# Altium integrated library Altium Database Library V2.IntLib: 722 symbols (part 24 of 35)

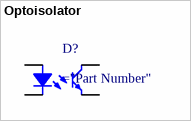
[diagram p457: symbol Optoisolator]

## Optoisolator
designator D?
pins: 1, 2, 3, 4


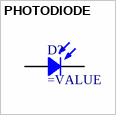
[diagram p458: symbol PHOTODIODE]

## PHOTODIODE
designator D?
Photodiode
pins: 1, 2


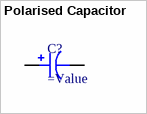
[diagram p459: symbol Polarised Capacitor]

## Polarised Capacitor
designator C?
SMT Polarised Capacitor
pins: 1, 2


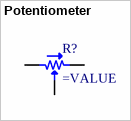
[diagram p460: symbol Potentiometer]

## Potentiometer
designator R?
Potentiometer
pins: 1, 2, 3


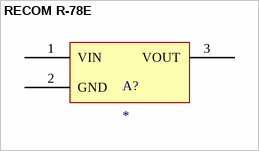
[diagram p461: symbol RECOM R-78E]

## RECOM R-78E
designator A?
pins: 1 VIN, 2 GND, 3 VOUT


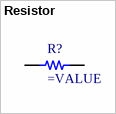
[diagram p462: symbol Resistor]

## Resistor
designator R?
SMT Resistor
pins: 1, 2


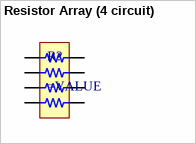
[diagram p463: symbol Resistor Array (4 circuit)]

## Resistor Array (4 circuit)
designator R?
SMT Resistor Array
pins: 1, 2, 3, 4, 5, 6, 7, 8


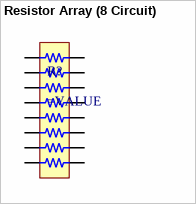
[diagram p464: symbol Resistor Array (8 Circuit)]

## Resistor Array (8 Circuit)
designator R?
SMT Resistor Array
pins: 1, 2, 3, 4, 5 6, 6, 7, 8, 9, 10, 11, 12, 13, 14, 15, 16


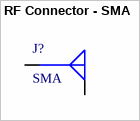
[diagram p465: symbol RF Connector - SMA]

## RF Connector - SMA
designator J?, comment SMA
pins: G, S


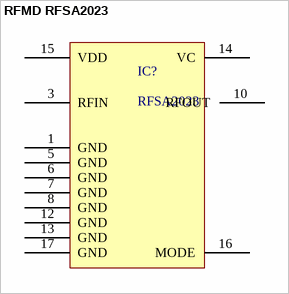
[diagram p466: symbol RFMD RFSA2023]

## RFMD RFSA2023
designator IC?, comment RFSA2023
VOLTAGE CONTROLLED ATTENUATOR
pins: 1 GND, 3 RFIN, 5 GND, 6 GND, 7 GND, 8 GND, 10 RFOUT, 12 GND, 13 GND, 14 VC, 15 VDD, 16 MODE, 17 GND


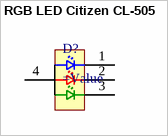
[diagram p467: symbol RGB LED Citizen CL-505]

## RGB LED Citizen CL-505
designator D?
*
pins: 1 C1, 2 C2, 3 C3, 4 A3


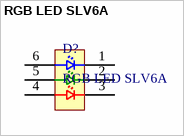
[diagram p468: symbol RGB LED SLV6A]

## RGB LED SLV6A
designator D?
Cree SLV6A
pins: 1 C1, 2 C2, 3 C3, 4 A3, 5 A2, 6 A1


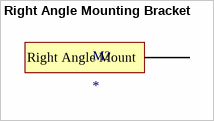
[diagram p469: symbol Right Angle Mounting Bracket]

## Right Angle Mounting Bracket
designator M?
pins: 1 Right Angle Mount


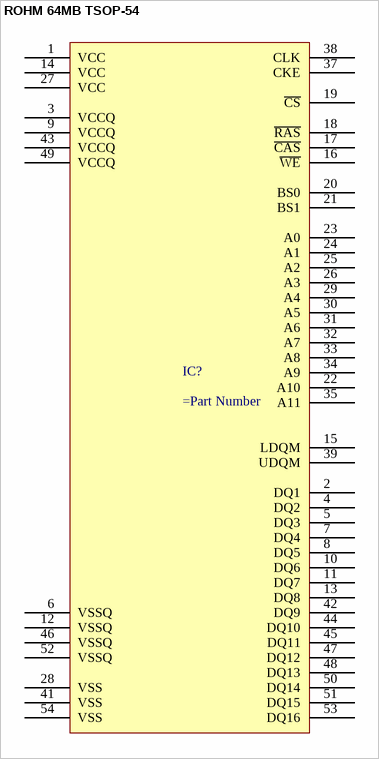
[diagram p470: symbol ROHM 64MB TSOP-54]

## ROHM 64MB TSOP-54
designator IC?
pins: 1 VCC, 2 DQ1, 3 VCCQ, 4 DQ2, 5 DQ3, 6 VSSQ, 7 DQ4, 8 DQ5, 9 VCCQ, 10 DQ6, 11 DQ7, 12 VSSQ, 13 DQ8, 14 VCC, 15 LDQM, 16 ~{WE}, 17 ~{CAS}, 18 ~{RAS}, 19 ~{CS}, 20 BS0, 21 BS1, 22 A10, 23 A0, 24 A1, 25 A2, 26 A3, 27 VCC, 28 VSS, 29 A4, 30 A5, 31 A6, 32 A7, 33 A8, 34 A9, 35 A11, 37 CKE, 38 CLK, 39 UDQM, 41 VSS, 42 DQ9, 43 VCCQ, 44 DQ10, 45 DQ11, 46 VSSQ, 47 DQ12, 48 DQ13, 49 VCCQ, 50 DQ14, 51 DQ15, 52 VSSQ, 53 DQ16, 54 VSS


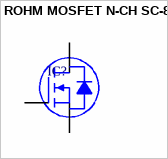
[diagram p471: symbol ROHM MOSFET N-CH SC-89]

## ROHM MOSFET N-CH SC-89
designator IC?
pins: 1 G, 2 S, 3 D


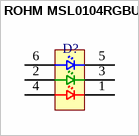
[diagram p472: symbol ROHM MSL0104RGBU1]

## ROHM MSL0104RGBU1
designator D?
pins: 1 CR, 2 AG, 3 CG, 4 AR, 5 CB, 6 AB, 7 CR


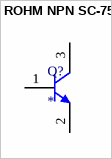
[diagram p473: symbol ROHM NPN SC-75]

## ROHM NPN SC-75
designator Q?
pins: 1 B, 2 E, 3 C


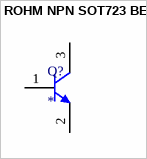
[diagram p474: symbol ROHM NPN SOT723 BEC]

## ROHM NPN SOT723 BEC
designator Q?
pins: 1 B, 2 E, 3 C


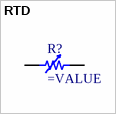
[diagram p475: symbol RTD]

## RTD
designator R?
SMT Resistor
pins: 1, 2


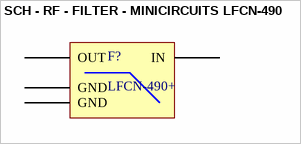
[diagram p476: symbol SCH - RF - FILTER - MINICIRCUITS LFCN-490]

## SCH - RF - FILTER - MINICIRCUITS LFCN-490
designator F?, comment LFCN-490+
490MHz Low Pass Filter
pins: 1 IN "Desc1", 2 GND "Desc1", 3 OUT "Desc1", 4 GND "Desc1"


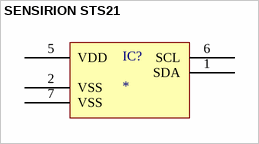
[diagram p477: symbol SENSIRION STS21]

## SENSIRION STS21
designator IC?
pins: 1 SDA, 2 VSS, 5 VDD, 6 SCL, 7 VSS


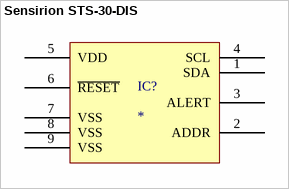
[diagram p478: symbol Sensirion STS-30-DIS]

## Sensirion STS-30-DIS
designator IC?
pins: 1 SDA, 2 ADDR, 3 ALERT, 4 SCL, 5 VDD, 6 ~{RESET}, 7 VSS, 8 VSS, 9 VSS


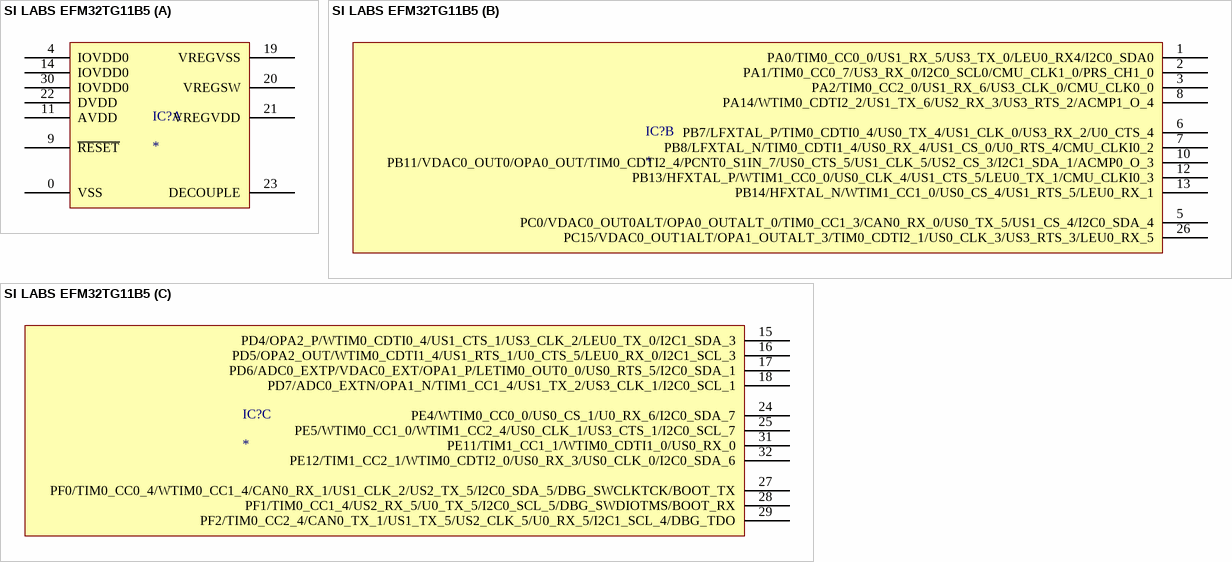
[diagram p479: symbol SI LABS EFM32TG11B5]

## SI LABS EFM32TG11B5
designator IC?
part A pins: 0 VSS, 4 IOVDD0, 9 ~{RESET}, 11 AVDD, 14 IOVDD0, 19 VREGVSS, 20 VREGSW, 21 VREGVDD, 22 DVDD, 23 DECOUPLE, 30 IOVDD0
part B pins: 1 PA0/TIM0_CC0_0/US1_RX_5/US3_TX_0/LEU0_RX4/I2C0_SDA0, 2 PA1/TIM0_CC0_7/US3_RX_0/I2C0_SCL0/CMU_CLK1_0/PRS_CH1_0, 3 PA2/TIM0_CC2_0/US1_RX_6/US3_CLK_0/CMU_CLK0_0, 5 PC0/VDAC0_OUT0ALT/OPA0_OUTALT_0/TIM0_CC1_3/CAN0_RX_0/US0_TX_5/US1_CS_4/I2C0_SDA_4, 6 PB7/LFXTAL_P/TIM0_CDTI0_4/US0_TX_4/US1_CLK_0/US3_RX_2/U0_CTS_4, 7 PB8/LFXTAL_N/TIM0_CDTI1_4/US0_RX_4/US1_CS_0/U0_RTS_4/CMU_CLKI0_2, 8 PA14/WTIM0_CDTI2_2/US1_TX_6/US2_RX_3/US3_RTS_2/ACMP1_O_4, 10 PB11/VDAC0_OUT0/OPA0_OUT/TIM0_CDTI2_4/PCNT0_S1IN_7/US0_CTS_5/US1_CLK_5/US2_CS_3/I2C1_SDA_1/ACMP0_O_3, 12 PB13/HFXTAL_P/WTIM1_CC0_0/US0_CLK_4/US1_CTS_5/LEU0_TX_1/CMU_CLKI0_3, 13 PB14/HFXTAL_N/WTIM1_CC1_0/US0_CS_4/US1_RTS_5/LEU0_RX_1, 26 PC15/VDAC0_OUT1ALT/OPA1_OUTALT_3/TIM0_CDTI2_1/US0_CLK_3/US3_RTS_3/LEU0_RX_5
part C pins: 15 PD4/OPA2_P/WTIM0_CDTI0_4/US1_CTS_1/US3_CLK_2/LEU0_TX_0/I2C1_SDA_3, 16 PD5/OPA2_OUT/WTIM0_CDTI1_4/US1_RTS_1/U0_CTS_5/LEU0_RX_0/I2C1_SCL_3, 17 PD6/ADC0_EXTP/VDAC0_EXT/OPA1_P/LETIM0_OUT0_0/US0_RTS_5/I2C0_SDA_1, 18 PD7/ADC0_EXTN/OPA1_N/TIM1_CC1_4/US1_TX_2/US3_CLK_1/I2C0_SCL_1, 24 PE4/WTIM0_CC0_0/US0_CS_1/U0_RX_6/I2C0_SDA_7, 25 PE5/WTIM0_CC1_0/WTIM1_CC2_4/US0_CLK_1/US3_CTS_1/I2C0_SCL_7, 27 PF0/TIM0_CC0_4/WTIM0_CC1_4/CAN0_RX_1/US1_CLK_2/US2_TX_5/I2C0_SDA_5/DBG_SWCLKTCK/BOOT_TX, 28 PF1/TIM0_CC1_4/US2_RX_5/U0_TX_5/I2C0_SCL_5/DBG_SWDIOTMS/BOOT_RX, 29 PF2/TIM0_CC2_4/CAN0_TX_1/US1_TX_5/US2_CLK_5/U0_RX_5/I2C1_SCL_4/DBG_TDO, 31 PE11/TIM1_CC1_1/WTIM0_CDTI1_0/US0_RX_0, 32 PE12/TIM1_CC2_1/WTIM0_CDTI2_0/US0_RX_3/US0_CLK_0/I2C0_SDA_6
